# Altium schematic symbol library Library_KEI_Ruzicka.SchLib: 118 symbols (part 1 of 2)
Pins are listed as number, name and electrical type; pins without a type are passive.

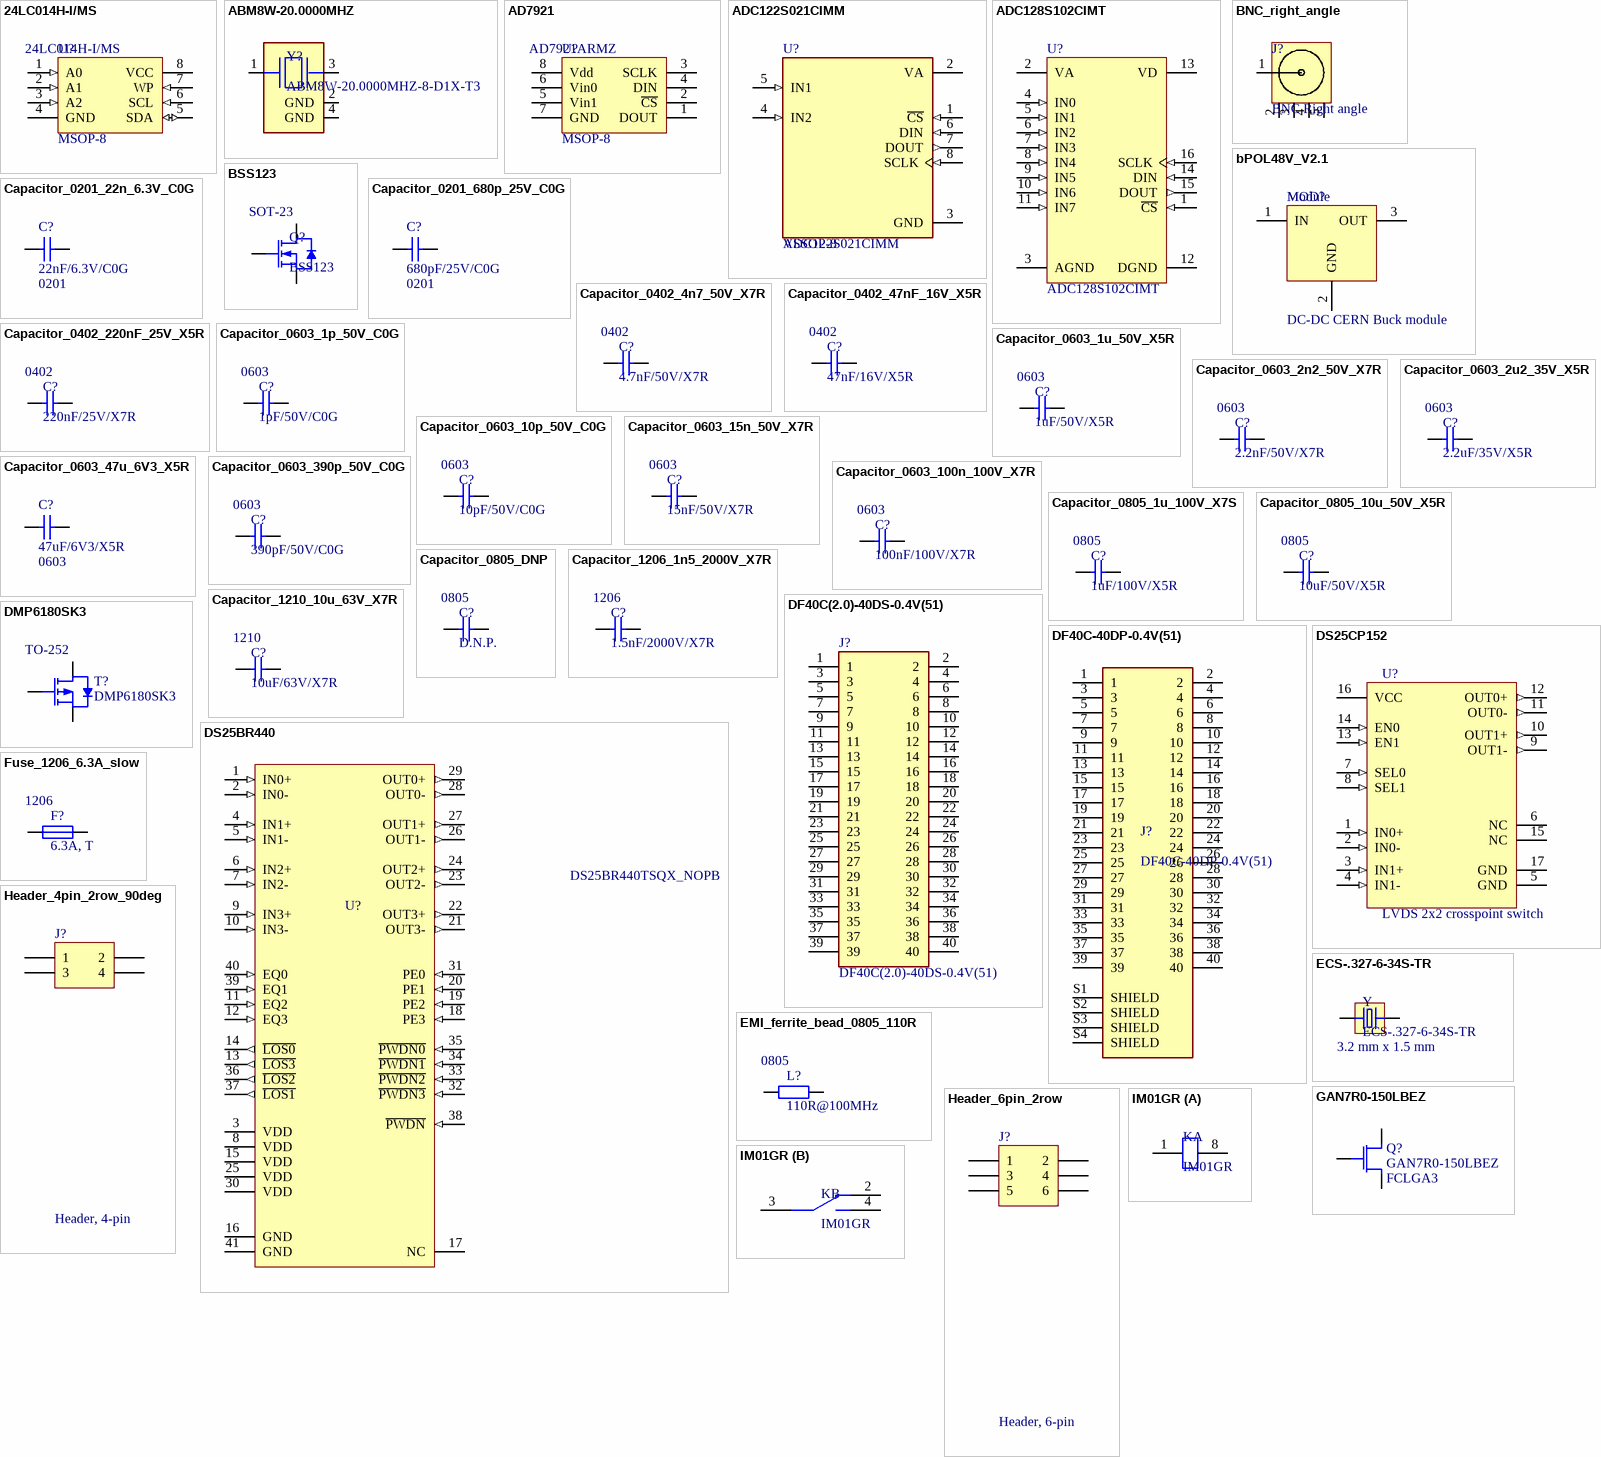
[diagram p0: symbols 24LC014H-I/MS to IM01GR]

## 24LC014H-I/MS
designator U?  Package: MSOP-8
I2C EEPROM 1K 128x8; Manufacturer: Microchip Technology; Link: https://cz.mouser.com/ProductDetail/Microchip-Technology/24LC014H-I-MS?qs=hH%252BOa0VZEiBOWodxna96qw%3D%3D; Distributor: Mouser; Part Number: 24LC014H-I/MS
footprint MSOP-8
pins: 1 A0 (in), 2 A1 (in), 3 A2 (in), 4 GND, 5 SDA (io), 6 SCL (in), 7 WP (in), 8 VCC

## ABM8W-20.0000MHZ
designator Y?, comment ABM8W-20.0000MHZ-8-D1X-T3
Crystal 20MHz ±10ppm (Tol) ±20ppm (Stability) 8pF 50Ohm; Manufacturer: ABRACON; Link: https://cz.mouser.com/ProductDetail/ABRACON/ABM8W-20.0000MHZ-8-D1X-T3?qs=5aG0NVq1C4wRm2evyp%252Ba5g%3D%3D; Distributor: Mouser; Part Number: ABM8W-20.0000MHZ-8-D1X-T3; Package: 4-pin SMD
footprint XTAL_ABM8W-20.0000MHZ-8-D1X-T3
pins: 1, 2 GND (power), 3 2, 4 GND (power)

## AD7921
designator U?, comment AD7921ARMZ  Package: MSOP-8
ADC 2 channel SPI 12 bit, 250kSps; Manufacturer: Analog Devices; Part Number: AD7921ARMZ-ND; Link: https://cz.mouser.com/ProductDetail/Analog-Devices/AD7921ARMZ?qs=%2FtpEQrCGXCyIZB8InYsRQw%3D%3D; Distributor: Mouser
footprint MSOP-8
pins: 1 DOUT, 2 ~{CS}, 3 SCLK, 4 DIN, 5 Vin1, 6 Vin0, 7 GND, 8 Vdd

## ADC122S021CIMM
designator U?  Package: VSSOP-8
A/D Converter 2 Channel, 50 ksps to 200 ksps 12-Bit; Manufacturer: Texas Instruments; Part Number: ADC122S021CIMMX/NOPB; Link: https://cz.mouser.com/ProductDetail/Texas-Instruments/ADC122S021CIMMX-NOPB?qs=7X5t%252BdzoRHB2bC7Teu8H3A%3D%3D; Distributor: Mouser
footprint VSSOP-8 (Plastic Small Outline 5,05mm x 3,10mm)
pins: 1 ~{CS} (in), 2 VA (power), 3 GND (power), 4 IN2 (in), 5 IN1 (in), 6 DIN (in), 7 DOUT (out), 8 SCLK (in)

## ADC128S102CIMT
designator U?
Analog to Digital Converte, 8 channel, 12 bit; Manufacturer: Texas Instruments; Part Number: 926-C128S102CIMTNOPB; Link: https://cz.mouser.com/ProductDetail/Texas-Instruments/ADC128S102CIMT-NOPB?qs=sGAEpiMZZMsFKQfwwdJx%2Fy%252BvtigOyWq%2Fghg6sc6nQrw%3D; Distributor: Mouser; Package: TSSOP-16
footprint SSOP-16_M (SOP, 16-Leads, Body 4.9x3.9mm, Pitch 0.635mm, IPC Low Density)
pins: 1 ~{CS} (in), 2 VA (power), 3 AGND (power), 4 IN0 (in), 5 IN1 (in), 6 IN2 (in), 7 IN3 (in), 8 IN4 (in), 9 IN5 (in), 10 IN6 (in), 11 IN7 (in), 12 DGND (power), 13 VD (power), 14 DIN (in), 15 DOUT (out), 16 SCLK (in)

## BNC_right_angle
designator J?, comment BNC Right angle
Link: -; Distributor: -; Manufacturer: -; Part Number: -
footprint BNC_right_angle_elevated
pins: 1, 2, 3, 4, 5

## bPOL48V_V2.1
designator MOD?, comment DC-DC CERN Buck module  Package: Module
Part Number: bPOL48V_V2.1; Link: https://espace.cern.ch/project-DCDC-new/Shared%20Documents/bPOL48V_V2.1_Datasheet.pdf; Distributor: CERN; Manufacturer: CERN
footprint bPOL48V_V2.1 (DC-DC CERN Buck)
pins: 1 IN (power), 2 GND, 3 OUT

## BSS123
designator Q?  Package: SOT-23
N-channel MOSFET, 100 V, 170 mA, 6 ohm; Manufacturer: onsemi; Link: https://cz.mouser.com/ProductDetail/onsemi-Fairchild/BSS123?qs=FOlmdCx%252BAA2Kf8SEB3qLYA%3D%3D; Distributor: Mouser; Part Number: BSS123
footprint SOT-23 (SOT23, 3-Leads, Body 2.92x1.3mm, Pitch 0.95mm)
pins: 1 G, 2 S, 3 D

## Capacitor_0201_22n_6.3V_C0G
designator C?, comment 22nF/6.3V/C0G  Package: 0201
MLCC capacitor, non-polarized; Manufacturer: Murata; Part Number: GRM033R60J223KE01D; Link: https://cz.mouser.com/ProductDetail/Murata-Electronics/GRM033R60J223KE01D?qs=%252BwCMEOx2S5ulxKUDUfgkDw%3D%3D; Distributor: Mouser
footprint sm_cap_0201
pins: 1, 2

## Capacitor_0201_680p_25V_C0G
designator C?, comment 680pF/25V/C0G  Package: 0201
MLCC capacitor, non-polarized; Manufacturer: Murata; Part Number: GRT0335C1E681JA02D; Link: https://cz.mouser.com/ProductDetail/Murata-Electronics/GRT0335C1E681JA02D?qs=d0WKAl%252BL4KbgBt1ILE9pSw%3D%3D; Distributor: Mouser
footprint sm_cap_0201
pins: 1, 2

## Capacitor_0402_4n7_50V_X7R
designator C?, comment 4.7nF/50V/X7R  Package: 0402
MLCC capacitor, non-polarized; Manufacturer: KYOCERA AVX; Part Number: KAM05AR71H472KH; Link: https://cz.mouser.com/ProductDetail/KYOCERA-AVX/KAM05AR71H472KH?qs=Jm2GQyTW%2Fbi%2FNi5zj8TR%252Bg%3D%3D; Distributor: Mouser
footprint sm_cap_0402
pins: 1, 2

## Capacitor_0402_47nF_16V_X5R
designator C?, comment 47nF/16V/X5R  Package: 0402
MLCC capacitor, non-polarized; Manufacturer: Murata; Part Number: GRM155R61C473JA01J; Link: https://cz.mouser.com/ProductDetail/Murata-Electronics/GRM155R61C473JA01J?qs=QzBtWTOodeXAsR6HlTl%252Bkg%3D%3D; Distributor: Mouser
footprint sm_cap_0402
pins: 1, 2

## Capacitor_0402_220nF_25V_X5R
designator C?, comment 220nF/25V/X7R  Package: 0402
MLCC capacitor, non-polarized; Manufacturer: TDK; Part Number: CGA2B3X7R1E224K050BE; Link: https://cz.mouser.com/ProductDetail/TDK/CGA2B3X7R1E224K050BE?qs=nQSIdc08i%252BchI4yuTG7auA%3D%3D; Distributor: Mouser
footprint sm_cap_0402
pins: 1, 2

## Capacitor_0603_1p_50V_C0G
designator C?, comment 1pF/50V/C0G  Package: 0603
MLCC capacitor, non-polarized; Manufacturer: KEMET; Part Number: C0603X109B5GACTU; Link: https://cz.mouser.com/ProductDetail/KEMET/C0603X109B5GACTU?qs=AQlKX63v8Rs4glLobqd%2FJw%3D%3D; Distributor: Mouser
footprint sm_cap_0603
pins: 1, 2

## Capacitor_0603_1u_50V_X5R
designator C?, comment 1uF/50V/X5R  Package: 0603
MLCC capacitor, non-polarized; Manufacturer: TDK; Part Number: CGA3E3X5R1H105M080AB; Link: https://cz.mouser.com/ProductDetail/TDK/CGA3E3X5R1H105M080AB?qs=sGAEpiMZZMvsSlwiRhF8qtKev7nvVKumBWRZ1nz7E2iGB77JPjf3fQ%3D%3D; Distributor: Mouser
footprint sm_cap_0603
pins: 1, 2

## Capacitor_0603_2n2_50V_X7R
designator C?, comment 2.2nF/50V/X7R  Package: 0603
MLCC capacitor, non-polarized; Manufacturer: Samsung Electro-Mechanics; Part Number: CL10B222KB8WPNC; Link: https://cz.mouser.com/ProductDetail/Samsung-Electro-Mechanics/CL10B222KB8WPNC?qs=7636FU3EItqqh5a8qV3Nhw%3D%3D; Distributor: Mouser
footprint sm_cap_0603
pins: 1, 2

## Capacitor_0603_2u2_35V_X5R
designator C?, comment 2.2uF/35V/X5R  Package: 0603
MLCC capacitor, non-polarized; Manufacturer: Murata; Part Number: GRM188R6YA225KA12D; Link: https://cz.mouser.com/ProductDetail/Murata-Electronics/GRM188R6YA225KA12D?qs=eeBpzGFlv%252B8CSp%2FeV2GiyQ%3D%3D; Distributor: Mouser
footprint sm_cap_0603
pins: 1, 2

## Capacitor_0603_10p_50V_C0G
designator C?, comment 10pF/50V/C0G  Package: 0603
MLCC capacitor, non-polarized; Manufacturer: AVX; Part Number: 06035A100JAT2A; Link: https://cz.mouser.com/ProductDetail/KYOCERA-AVX/06035A100JAT2A?qs=AGOxcRBkg6by8yQx3vvyTA%3D%3D; Distributor: Mouser
footprint sm_cap_0603
pins: 1, 2

## Capacitor_0603_15n_50V_X7R
designator C?, comment 15nF/50V/X7R  Package: 0603
MLCC capacitor, non-polarized; Manufacturer: Murata; Part Number: GCM188R71H153JA37J; Link: https://cz.mouser.com/ProductDetail/Murata-Electronics/GCM188R71H153JA37J?qs=sGAEpiMZZMvsSlwiRhF8qobMx1Rubn6OPLJeCeWfX7A%3D; Distributor: Mouser
footprint sm_cap_0603
pins: 1, 2

## Capacitor_0603_47u_6V3_X5R
designator C?, comment 47uF/6V3/X5R  Package: 0603
MLCC capacitor, non-polarized; Manufacturer: Murata Electronics; Part Number: ZRB18AR60J476ME01L; Link: https://cz.mouser.com/ProductDetail/Murata-Electronics/ZRB18AR60J476ME01L?qs=sGAEpiMZZMvsSlwiRhF8qnZmzmslKSd%2FAu2dWslIKC92PKGMZfCuNw%3D%3D; Distributor: Mouser
footprint sm_cap_0603
pins: 1, 2

## Capacitor_0603_100n_100V_X7R
designator C?, comment 100nF/100V/X7R  Package: 0603
MLCC capacitor, non-polarized; Manufacturer: KEMET; Part Number: C0603X104K1RACAUTO; Link: https://cz.mouser.com/ProductDetail/KEMET/C0603X104K1RACAUTO?qs=sGAEpiMZZMvsSlwiRhF8qrQG6leidpLjn6YuEhAYo4Wb52qvqRw8GA%3D%3D; Distributor: Mouser
footprint sm_cap_0603
pins: 1, 2

## Capacitor_0603_390p_50V_C0G
designator C?, comment 390pF/50V/C0G  Package: 0603
MLCC capacitor, non-polarized; Manufacturer: Murata Electronics; Part Number: GRM1885C1H391JA01J; Link: https://cz.mouser.com/ProductDetail/Murata-Electronics/GRM1885C1H391JA01J?qs=1Vk7sgAE1IxsLlp7b3%252BDpg%3D%3D; Distributor: Mouser
footprint sm_cap_0603
pins: 1, 2

## Capacitor_0805_1u_100V_X7S
designator C?, comment 1uF/100V/X5R  Package: 0805
MLCC capacitor, non-polarized; Manufacturer: TDK; Part Number: C2012X7S2A105K125AE; Link: https://cz.mouser.com/ProductDetail/TDK/C2012X7S2A105K125AE?qs=sGAEpiMZZMvsSlwiRhF8qglhG%252BcX4lmReuggWwOsjPA%3D; Distributor: Mouser
footprint sm_cap_0805
pins: 1, 2

## Capacitor_0805_10u_50V_X5R
designator C?, comment 10uF/50V/X5R  Package: 0805
MLCC capacitor, non-polarized; Manufacturer: Murata Electronics; Part Number: GRM21BR61H106KE43L; Link: https://cz.mouser.com/ProductDetail/Murata-Electronics/GRM21BR61H106KE43L?qs=sGAEpiMZZMvsSlwiRhF8qtsBU8Zhqm2RN1uvvh5DZMQnKsP%252BYKxcCA%3D%3D; Distributor: Mouser
footprint sm_cap_0805
pins: 1, 2

## Capacitor_0805_DNP
designator C?, comment D.N.P.  Package: 0805
MLCC capacitor, non-polarized; Link: -; Distributor: -; Manufacturer: -; Part Number: -
footprint sm_cap_0805
pins: 1, 2

## Capacitor_1206_1n5_2000V_X7R
designator C?, comment 1.5nF/2000V/X7R  Package: 1206
MLCC capacitor, non-polarized; Manufacturer: KEMET; Part Number: C1206C152KGRACTU; Link: https://cz.mouser.com/ProductDetail/KEMET/C1206C152KGRACTU?qs=7IaIRco65pkaVlY%252BAitWtw%3D%3D; Distributor: Mouser
footprint CAP_1206
pins: 1, 2

## Capacitor_1210_10u_63V_X7R
designator C?, comment 10uF/63V/X7R  Package: 1210
MLCC capacitor, non-polarized; Manufacturer: Murata Electronics; Part Number: GRM32ER71J106KA12L; Link: https://cz.mouser.com/ProductDetail/Murata-Electronics/GRM32ER71J106KA12L?qs=sGAEpiMZZMs7ZEmUmaUL0x5jo9FfpwHUWEhTkQ3JgZD2%2F9EKf40mBw%3D%3D; Distributor: Mouser
footprint SM_CAP_1210 (Footprint not found)
pins: 1, 2

## DF40C(2.0)-40DS-0.4V(51)
designator J?
40 Position Connector Receptacle, Center Strip Contacts Surface Mount Gold; Manufacturer: Hirose Connector; Link: https://cz.mouser.com/ProductDetail/Hirose-Connector/DF40C2.0-40DS-0.4V51?qs=tTj%252BmQ3KZwZ5XvyhQkwYtw%3D%3D; Distributor: Mouser; Part Number: DF40C(2.0)-40DS-0.4V(51); Package: DF40C(2.0)-40DS-0.4V(51)
footprint CONN_DF40C(2.0)-40DS-0.4V(51)
pins: 1, 2, 3, 4, 5, 6, 7, 8, 9, 10, 11, 12, 13, 14, 15, 16, 17, 18, 19, 20, 21, 22, 23, 24, 25, 26, 27, 28, 29, 30, 31, 32, 33, 34, 35, 36, 37, 38, 39, 40

## DF40C-40DP-0.4V(51)
designator J?
40 Position Connector Plug, Outer Shroud Contacts Surface Mount Gold; Manufacturer: Hirose Connector; Link: https://cz.mouser.com/ProductDetail/Hirose-Connector/DF40C-40DP-0.4V51?qs=eDUdFcBPps3ody6AX5VRNA%3D%3D; Distributor: Mouser; Part Number: DF40C-40DP-0.4V(51); Package: DF40C-40DP-0.4V(51)
footprint HRS_DF40C-40DP-0.4V(51)
pins: 1, 2, 3, 4, 5, 6, 7, 8, 9, 10, 11, 12, 13, 14, 15, 16, 17, 18, 19, 20, 21, 22, 23, 24, 25, 26, 27, 28, 29, 30, 31, 32, 33, 34, 35, 36, 37, 38, 39, 40, S1 SHIELD, S2 SHIELD, S3 SHIELD, S4 SHIELD

## DMP6180SK3
designator T?  Package: TO-252
P-channel mosfet, -60V, -14A, 110 mohm; Manufacturer: Diodes Incorporated; Part Number: DMP6180SK3-13; Link: https://cz.mouser.com/ProductDetail/Diodes-Incorporated/DMP6180SK3-13?qs=%252BSlWJf1dfkLvoylKqqyIWA%3D%3D; Distributor: Mouser
footprint TO-252_M (D-PAK, 4-Leads, Body 6.1x6.5mm, Pitch 2.28mm, Lead Span 9.7mm, IPC Low Density)
pins: 1 G, 2 S, 3 D

## DS25BR440
designator U?, comment DS25BR440TSQX_NOPB
LVDS Repeater 3.125 Gbps Quad Buffer with Transmit Pre-Emphasis and Receive / Equalization; Manufacturer: Texas Instruments; Part Number: DS25BR440TSQX/NOPB; Link: https://cz.mouser.com/ProductDetail/Texas-Instruments/DS25BR440TSQX-NOPB?qs=7X5t%252BdzoRHCM5Vgq5Nuqjg%3D%3D; Distributor: Mouser; Package: WQFN-40
footprint WQFN-40N (QFN50P600X600X80-41N)
pins: 1 IN0+ (in), 2 IN0- (in), 3 VDD (power), 4 IN1+ (in), 5 IN1- (in), 6 IN2+ (in), 7 IN2- (in), 8 VDD (power), 9 IN3+ (in), 10 IN3- (in), 11 EQ2 (in), 12 EQ3 (in), 13 ~{LOS3} (out), 14 ~{LOS0} (out), 15 VDD (power), 16 GND (power), 17 NC, 18 PE3 (in), 19 PE2 (in), 20 PE1 (in), 21 OUT3- (out), 22 OUT3+ (out), 23 OUT2- (out), 24 OUT2+ (out), 25 VDD (power), 26 OUT1- (out), 27 OUT1+ (out), 28 OUT0- (out), 29 OUT0+ (out), 30 VDD (power), 31 PE0 (in), 32 ~{PWDN3} (in), 33 ~{PWDN2} (in), 34 ~{PWDN1} (in), 35 ~{PWDN0} (in), 36 ~{LOS2} (out), 37 ~{LOS1} (out), 38 ~{PWDN} (in), 39 EQ1 (in), 40 EQ0 (in), 41 GND (power)

## DS25CP152
designator U?, comment LVDS 2x2 crosspoint switch
3.125-Gbps LVDS 2x2 crosspoint switch; Manufacturer: Texas Instruments; Part Number: DS25CP152TSQ/NOPB; Link: https://cz.mouser.com/ProductDetail/Texas-Instruments/DS25CP152TSQ-NOPB?qs=7X5t%252BdzoRHAhlY4kQ2ZvIQ%3D%3D; Distributor: Mouser; Package: WQFN-16
footprint WQFN-16 (QFN50P400X400X80-17N)
pins: 1 IN0+ (in), 2 IN0- (in), 3 IN1+ (in), 4 IN1- (in), 5 GND (power), 6 NC, 7 SEL0 (in), 8 SEL1 (in), 9 OUT1- (out), 10 OUT1+ (out), 11 OUT0- (out), 12 OUT0+ (out), 13 EN1 (in), 14 EN0 (in), 15 NC, 16 VCC (power), 17 GND (power)

## ECS-.327-6-34S-TR
designator Y  Package: 3.2 mm x 1.5 mm
32.768kHz ±20ppm Crystal 6pF 70 kOhms; Manufacturer: ECS; Link: https://cz.mouser.com/ProductDetail/ECS/ECS-327-6-34QS-TR?qs=%2FnKYMpMO73M8kCG5qF34Vw%3D%3D&utm_id=9873308831&gad_source=1&gclid=EAIaIQobChMI2afi9vT2hgMVcwsGAB0wVgxSEAAYAiAAEgIbtPD_BwE; Distributor: Mouser; Part Number: ECS-.327-6-34S-TR
footprint XTAL_ECS-.327-6-34S-TR
pins: 1 IN/OUT, 2 OUT/IN

## EMI_ferrite_bead_0805_110R
designator L?, comment 110R@100MHz  Package: 0805
EMI ferrite bead; Manufacturer: Murata Electronics; Part Number: BLM21SP111SN1D; Link: https://cz.mouser.com/ProductDetail/Murata-Electronics/BLM21SP111SN1D?qs=byeeYqUIh0MCjH4e%2FBBFzA%3D%3D; Distributor: Mouser
footprint sm_res_0805
pins: 1, 2

## Fuse_1206_6.3A_slow
designator F?, comment 6.3A, T  Package: 1206
SMD fuse; Manufacturer: Bourns; Part Number: SF-1206S630W-2; Link: https://cz.mouser.com/ProductDetail/Bourns/SF-1206S630W-2?qs=fAHHVMwC%252BbgLTBZaSQKpVQ%3D%3D; Distributor: Mouser
footprint FUSE_1206
pins: 1, 2

## GAN7R0-150LBEZ
designator Q?  Package: FCLGA3
MOSFET GAN7R0-150LBE/SOT8073/FCLGA; Manufacturer: Nexperia; Link: https://cz.mouser.com/ProductDetail/Nexperia/GAN7R0-150LBEZ?qs=3Rah4i%252BhyCG9ftWcAfuxkQ%3D%3D; Distributor: Mouser; Part Number: GAN7R0-150LBEZ
footprint GAN7R0150LBEZ
pins: 1 G, 2 S, 3 D

## Header_4pin_2row_90deg
designator J?, comment Header, 4-pin
Header, 4-pin, Right angle; Manufacturer: Amphenol; Part Number: 10129382-904002BLF; Link: https://cz.mouser.com/ProductDetail/Amphenol-FCI/10129382-904002BLF?qs=0lQeLiL1qyb38jq%2FoTNEAg%3D%3D; Distributor: Mouser; Package: Header, 4-pin
footprint HDR2X2_90deg (Connector; Header; 2x2 Position, 90 deg)
pins: 1, 2, 3, 4

## Header_6pin_2row
designator J?, comment Header, 6-pin
Manufacturer: Amphenol; Part Number: 67996-206HLF; Link: https://www.tme.eu/cz/details/67996-206hlf/konektory-hrebinky/amphenol-communications-solutions/; Distributor: TME; Package: Header, 6-pin
footprint HDR2X3 (Connector; Header; 3x2 Position)
pins: 1, 2, 3, 4, 5, 6

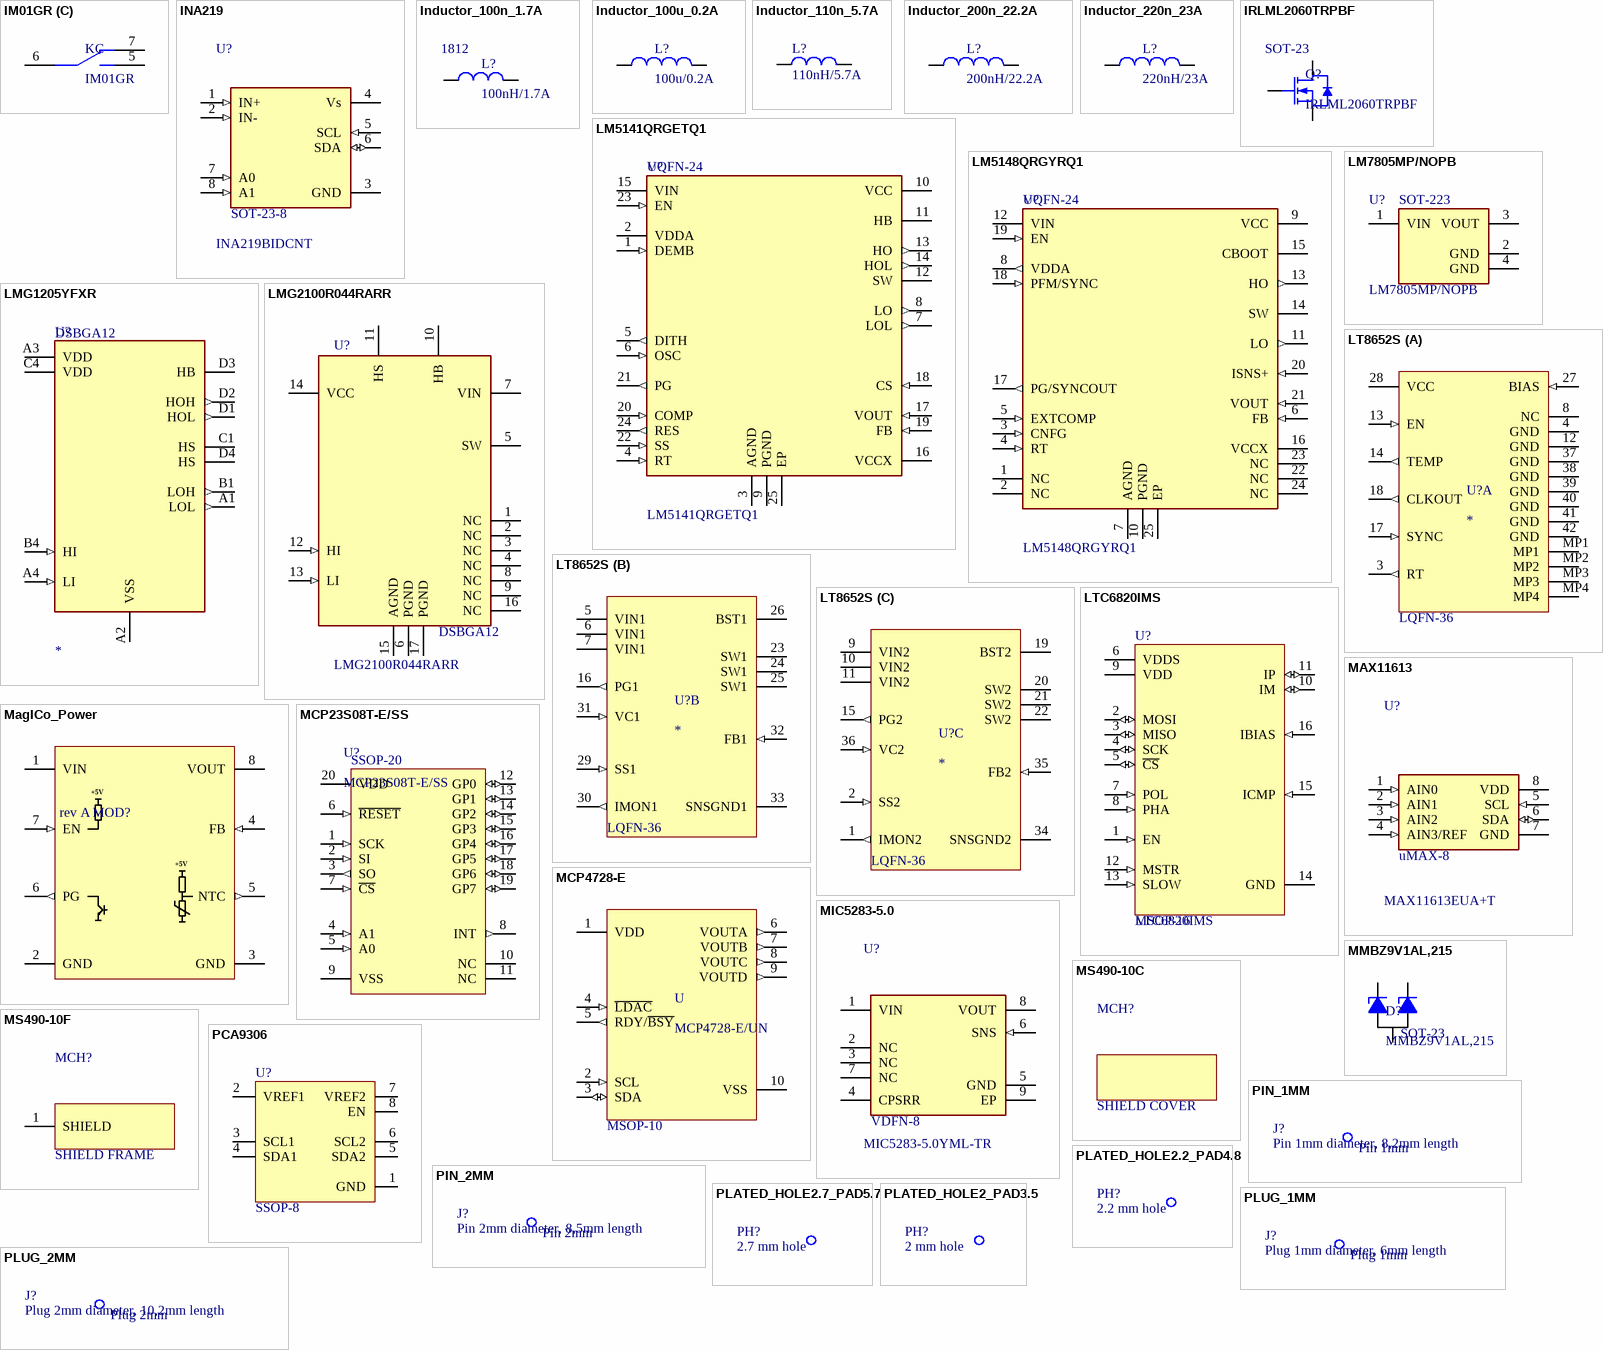
[diagram p1: symbols IM01GR to PLUG_2MM]

## IM01GR
designator K
Relay 3VDC 2A DPDT Signal Relay; Manufacturer: TE Connectivity; Link: https://cz.mouser.com/ProductDetail/TE-Connectivity-PB/IM01GR?qs=kJlCKCzaZTN1lvAfLPfsqA%3D%3D; Distributor: Mouser; Part Number: IM01GR; Package: IM01GR
footprint RELAY_1462037-1
part A pins: 1, 8
part B pins: 2, 3, 4
part C pins: 5, 6, 7

## INA219
designator U?, comment INA219BIDCNT  Package: SOT-23-8
Current/Power Monitor With I2C Interface, Zero-Drift, Bidirectional; Manufacturer: Texas Instruments; Link: https://cz.mouser.com/ProductDetail/Texas-Instruments/INA219BIDCNT?qs=1WmUhT%2FVMIMmEKxVjzYikA%3D%3D; Distributor: Mouser; Part Number: INA219BIDCNT
footprint SOT-23-8 (SOT65P280X145-8N)
pins: 1 IN+ (in), 2 IN- (in), 3 GND (power), 4 Vs (power), 5 SCL (in), 6 SDA (io), 7 A0 (in), 8 A1 (in)

## Inductor_100n_1.7A
designator L?, comment 100nH/1.7A  Package: 1812
Inductor; Manufacturer: Coilcraft; Part Number: 1812SMS-R10JLC; Link: https://cz.mouser.com/ProductDetail/Coilcraft/1812SMS-R10JLC?qs=zCSbvcPd3pbVN1hjNI%252BheA%3D%3D; Distributor: Mouser
footprint 1812SMS_Midi_Spring (Midi Spring Air Core Inductors)
pins: 1, 2

## Inductor_100u_0.2A
designator L?, comment 100u/0.2A
Inductor 100uH 200mA 10% 3.2x4.5mm SMD; Manufacturer: Murata Power Solutions; Part Number: 580-46104C; Link: https://cz.mouser.com/ProductDetail/EPCOS-TDK/B82432T1104K?qs=%2FkiEPUfD%2Fqmq0lz0mGMkmg%3D%3D&utm_id=9873308831&gad_source=1&gclid=EAIaIQobChMI08apwPjqhgMVtRAGAB0g2wXsEAAYAiAAEgKQovD_BwE; Distributor: Mouser; Package: 7.3 mm x 7.3 mm x 4.55 mm
footprint INDPM4532X340N (Footprint not found)
pins: 1, 2

## Inductor_110n_5.7A
designator L?, comment 110nH/5.7A
Inductor; Manufacturer: Coilcraft; Part Number: 2222SQ-111GEC; Link: https://cz.mouser.com/ProductDetail/Coilcraft/2222SQ-111GEC?qs=zCSbvcPd3pZ0eE6U0U80dQ%3D%3D; Distributor: Mouser; Package: 2222SQ-111
footprint 2222SQ-111 (Square Air Core Inductors)
pins: 1, 2

## Inductor_200n_22.2A
designator L?, comment 200nH/22.2A
Inductor 200nH 22.2A 10% 5.5x5.3mm SMD; Manufacturer: Bussmann / Eaton; Part Number: HCMA0503-R20-R; Link: https://cz.mouser.com/ProductDetail/Bussmann-Eaton/HCMA0503-R20-R?qs=iCT64eccu7h4SXkv2y5KYg%3D%3D; Distributor: Mouser; Package: 5.5 mm x 5.3 mm x 3 mm
footprint HCMA0503 (Automotive grade / High current power inductors)
pins: 1, 2

## Inductor_220n_23A
designator L?, comment 220nH/23A
Inductor 220nH 23A 10% 6.47x6.47mm SMD; Manufacturer: Vishay / Dale; Part Number: IHLP2525CZERR22M01; Link: https://cz.mouser.com/ProductDetail/Vishay-Dale/IHLP2525CZERR22M01?qs=OjIXCZeWnygH8nA97%252B9bsQ%3D%3D; Distributor: Mouser; Package: 6.47 mm x 6.47 mm x 3 mm
footprint IHLP-2525CZ-01 (IHLP® Commercial Inductors, High Saturation Series)
pins: 1, 2

## IRLML2060TRPBF
designator Q?  Package: SOT-23
N-channel MOSFET, 60 V, 1,2 A, 480 mohm; Manufacturer: Infineon Technologies; Link: https://cz.mouser.com/ProductDetail/Infineon-Technologies/IRLML2060TRPBF?qs=9%252BKlkBgLFf1IzIjJ4taDPQ%3D%3D; Distributor: Mouser; Part Number: IRLML2060TRPBF
footprint SOT-23 (SOT23, 3-Leads, Body 2.92x1.3mm, Pitch 0.95mm)
pins: 1 G, 2 S, 3 D

## LM5141QRGETQ1
designator U?  Package: VQFN-24
Synchronous Buck Controller Wide Input 2.2MHz low Iq; Manufacturer: Texas Instruments; Link: https://cz.mouser.com/ProductDetail/Texas-Instruments/LM5141QRGETQ1?qs=LuYMPh7GGMRCEBYxuoWMuQ%3D%3D&_gl=1*xs43b3*_ga*dW5kZWZpbmVk*_ga_15W4STQT4T*dW5kZWZpbmVk*_ga_1KQLCYKRX3*dW5kZWZpbmVk; Distributor: Mouser; Part Number: LM5141QRGETQ1
footprint QFN24_4MM_X_4MM-D
pins: 1 DEMB (in), 2 VDDA (power), 3 AGND (power), 4 RT (in), 5 DITH (out), 6 OSC (in), 7 LOL (out), 8 LO (out), 9 PGND (power), 10 VCC (power), 11 HB (power), 12 SW, 13 HO (out), 14 HOL (out), 15 VIN (power), 16 VCCX (power), 17 VOUT (in), 18 CS (in), 19 FB (in), 20 COMP (in), 21 PG (out), 22 SS (in), 23 EN (in), 24 RES (out), 25 EP (power)

## LM5148QRGYRQ1
designator U?  Package: VQFN-24
Switching Controllers Automotive, 80-V synchronous buck DC/DC controller with ultra-low IQ; Manufacturer: Texas Instruments; Link: https://cz.mouser.com/ProductDetail/Texas-Instruments/LM5148QRGYRQ1?qs=Jm2GQyTW%2FbhUnPSFFUfrEg%3D%3D; Distributor: Mouser; Part Number: LM5148QRGYRQ1
footprint QFN24_4MM_X_4MM-D
pins: 1 NC, 2 NC, 3 CNFG (in), 4 RT (in), 5 EXTCOMP (in), 6 FB (in), 7 AGND (power), 8 VDDA (out), 9 VCC (power), 10 PGND (power), 11 LO (out), 12 VIN (power), 13 HO (out), 14 SW, 15 CBOOT (power), 16 VCCX (power), 17 PG/SYNCOUT  (out), 18 PFM/SYNC (in), 19 EN (in), 20 ISNS+ (in), 21 VOUT (in), 22 NC, 23 NC, 24 NC, 25 EP (power)

## LM7805MP/NOPB
designator U?  Package: SOT-223
1.5-A, 30-V, linear voltage regulator; Manufacturer: Texas Instruments; Link: https://cz.mouser.com/ProductDetail/Texas-Instruments/LM7805MP-NOPB?qs=gO6GG99qvRBdJUhXh1Qrhw%3D%3D; Distributor: Mouser; Part Number: LM7805MP/NOPB
footprint SOT-223_N (SOT223, 4-Leads, Body 6.5x3.5mm, Pitch 2.3mm, Lead Span 7mm, IPC Medium Density)
pins: 1 VIN (power), 2 GND (power), 3 VOUT (power), 4 GND (power)

## LMG1205YFXR
designator U?  Package: DSBGA12
1.2-A, 5-A 100-V, half bridge gate driver with 5-V UVLO for GaNFET and MOSFET; Manufacturer: Texas Instruments; Part Number: LMG1205YFXT; Link: https://cz.mouser.com/ProductDetail/Texas-Instruments/LMG1205YFXT?qs=u4fy%2FsgLU9P6VpA6YfrewQ%3D%3D; Distributor: Mouser
footprint BGA12_4MM_X_4MM
pins: A1 LOL (out), A2 VSS (power), A3 VDD (power), A4 LI (in), B1 LOH (out), B4 HI (in), C1 HS (power), C4 VDD (power), D1 HOL (out), D2 HOH (out), D3 HB (power), D4 HS (power)

## LMG2100R044RARR
designator U?  Package: DSBGA12
Gate Drivers 100-V 4.4-mΩ half-bridge GaN FET with integrated driver and protection; Manufacturer: Texas Instruments; Link: https://cz.mouser.com/ProductDetail/Texas-Instruments/LMG2100R044RARR?qs=ZcfC38r4PovtUeqDI2WsKQ%3D%3D; Distributor: Mouser; Part Number: LMG2100R044RARR
footprint RAR0016B-MFG
pins: 1 NC, 2 NC, 3 NC, 4 NC, 5 SW (power), 6 PGND (power), 7 VIN (power), 8 NC, 9 NC, 10 HB (power), 11 HS (power), 12 HI (in), 13 LI (in), 14 VCC (power), 15 AGND (power), 16 NC, 17 PGND (power)

## LT8652S
designator U?  Package: LQFN-36
Dual Channel 8.5A, 18V, Synchronous Step-Down Silent Switcher with 16µA Quiescent Current; Manufacturer: Analog Devices; Part Number: LT8652SIV#PBF; Link: https://cz.mouser.com/ProductDetail/Analog-Devices/LT8652SIVPBF?qs=wnTfsH77Xs7%252BwG2VxQ5HoA%3D%3D; Distributor: Mouser
footprint LQFN-36 (LT8652SIVPBF)
part A pins: 3 RT (out), 4 GND (power), 8 NC, 12 GND (power), 13 EN (in), 14 TEMP (out), 17 SYNC (in), 18 CLKOUT (out), 27 BIAS (in), 28 VCC (power), 37 GND (power), 38 GND (power), 39 GND (power), 40 GND (power), 41 GND (power), 42 GND (power), MP1, MP2, MP3, MP4
part B pins: 5 VIN1 (power), 6 VIN1 (power), 7 VIN1 (power), 16 PG1 (out), 23 SW1 (power), 24 SW1 (power), 25 SW1 (power), 26 BST1, 29 SS1 (in), 30 IMON1 (out), 31 VC1 (in), 32 FB1 (in), 33 SNSGND1 (power)
part C pins: 1 IMON2 (out), 2 SS2 (in), 9 VIN2 (power), 10 VIN2 (power), 11 VIN2 (power), 15 PG2 (out), 19 BST2 (power), 20 SW2 (power), 21 SW2 (power), 22 SW2 (power), 34 SNSGND2 (power), 35 FB2 (in), 36 VC2 (in)

## LTC6820IMS
designator U?  Package: MSOP-16
isoSPI Isolated Communications Interface; Manufacturer: Analog Devices; Part Number: LTC6820IMS#PBF; Link: https://cz.mouser.com/ProductDetail/Analog-Devices/LTC6820IMSPBF?qs=hVkxg5c3xu9mQWZApkXW1Q%3D%3D; Distributor: Mouser
footprint MSOP-16N (16-Lead Plastic MSOP)
pins: 1 EN (in), 2 MOSI (io), 3 MISO (io), 4 SCK (io), 5 ~{CS} (io), 6 VDDS (power), 7 POL (in), 8 PHA (in), 9 VDD (power), 10 IM (io), 11 IP (io), 12 MSTR (in), 13 SLOW (in), 14 GND (power), 15 ICMP (in), 16 IBIAS (in)

## MagICo_Power
designator MOD?, comment rev A
Magnetic Interference Compatible Buck Power Converter; Link: -; Distributor: -; Manufacturer: -; Part Number: -; Package: MOD
footprint MagICo_Power (Footprint not found)
pins: 1 VIN (power), 2 GND (power), 3 GND (power), 4 FB (in), 5 NTC (out), 6 PG (out), 7 EN (in), 8 VOUT
text: +5V

## MAX11613
designator U?, comment MAX11613EUA+T  Package: uMAX-8
12 Bit Analog to Digital Converter 2, 4 Input 1 SAR 8-uMAX; Manufacturer: Analog Devices / Maxim Integrated; Link: https://cz.mouser.com/ProductDetail/Analog-Devices-Maxim-Integrated/MAX11613EUA%2bT?qs=d3kjJb5aE2Yh9e8LMjtS%252Bw%3D%3D; Distributor: Mouser; Part Number: MAX11613EUA+T
footprint uMAX-8 (SOP65P490X110-8N)
pins: 1 AIN0 (in), 2 AIN1 (in), 3 AIN2 (in), 4 AIN3/REF (in), 5 SCL (in), 6 SDA (io), 7 GND (power), 8 VDD (power)

## MCP23S08T-E/SS
designator U?  Package: SSOP-20
8-Bit I/O Expander with Serial Interface; Manufacturer: Microchip; Link: https://cz.mouser.com/ProductDetail/Microchip-Technology/MCP23S08T-E-SS?qs=InakTnyiSK%252BxutFipKaKzg%3D%3D; Distributor: Mouser; Part Number: MCP23S08T-E/SS
footprint SSOP-20
pins: 1 SCK (in), 2 SI (in), 3 SO (out), 4 A1 (in), 5 A0 (in), 6 ~{RESET} (in), 7 ~{CS} (in), 8 INT (out), 9 VSS (power), 10 NC, 11 NC, 12 GP0 (io), 13 GP1 (io), 14 GP2 (io), 15 GP3 (io), 16 GP4 (io), 17 GP5 (io), 18 GP6 (io), 19 GP7 (io), 20 VDD (power)

## MCP4728-E
designator U, comment MCP4728-E/UN  Package: MSOP-10
DAC 12 Bit 4 Outputs 10-MSOP; Manufacturer: Microchip; Link: https://cz.mouser.com/ProductDetail/Microchip-Technology/MCP4728-E-UN?qs=E6wAi2XWqcP2zTenScklGA%3D%3D; Distributor: Mouser; Part Number: MCP4728-E/UN
footprint MSOP-10 (SOP50P490X110-10N)
pins: 1 VDD (power), 2 SCL (in), 3 SDA (io), 4 ~{LDAC} (in), 5 RDY/~{BSY} (out), 6 VOUTA (out), 7 VOUTB (out), 8 VOUTC (out), 9 VOUTD (out), 10 VSS (power)

## MIC5283-5.0
designator U?, comment MIC5283-5.0YML-TR  Package: VDFN-8
120V/150mA IN 5V OUT Ultra-Low IQ High-PSRR Linear Regulator; Manufacturer: Microchip Technology; Link: https://cz.mouser.com/ProductDetail/Microchip-Technology/MIC5283-5.0YML-TR?qs=Y3Q3JoKAO1QWhgN4NE2IkA%3D%3D; Distributor: Mouser; Part Number: MIC5283-5.0YML-TR
footprint VDFN-8 (SON65P300X300X100-9N-D)
pins: 1 VIN (power), 2 NC, 3 NC, 4 CPSRR, 5 GND (power), 6 SNS (in), 7 NC, 8 VOUT (power), 9 EP

## MMBZ9V1AL,215
designator D?  Package: SOT-23
TVS unidir - 6V, 1,7A; Manufacturer: Nexperia; Link: https://cz.mouser.com/ProductDetail/Nexperia/MMBZ9V1AL215?qs=MWRe%252BjyhxRvv06%252BacS3Dsg%3D%3D; Distributor: Mouser; Part Number: MMBZ9V1AL,215
footprint SOT-23
pins: 1 K1, 2 K2, 3 A

## MS490-10C
designator MCH?, comment Package: SHIELD COVER  (hidden comment: 49,6x35,6x3,5mm)
2-Piece EMI Shield Cover, 49,6x35,6x3,5mm; Manufacturer: Masach; Part Number: MS490-10C; Link: https://cz.mouser.com/ProductDetail/Masach/MS490-10C?qs=wT7LY0lnAe3NhZySkUkj0Q%3D%3D; Distributor: Mouser; ComponentLink2Description: Family
footprint MS490-10C (Footprint not found)

## MS490-10F
designator MCH?, comment Package: SHIELD FRAME  (hidden comment: 49x35x7,5mm)
2-Piece EMI Shield Frame, 49x3573,5mm; Manufacturer: Masach; Part Number: MS490-10F; Link: https://cz.mouser.com/ProductDetail/Masach/MS490-10F?qs=wT7LY0lnAe0FBrMkjysuhQ%3D%3D; Distributor: Mouser; ComponentLink2Description: Family
footprint MS490-10F
footprint MS490-10F_ShortFP
footprint MS490-10F_ShortFP_DNP
pins: 1 SHIELD

## PCA9306
designator U?, comment Package: SSOP-8  (hidden comment: PCA9306DCTR)
Level Translator for I2C; Manufacturer: Texas Instruments; Link: https://cz.mouser.com/ProductDetail/Texas-Instruments/PCA9306DCTR?qs=wgAEGBTxy7mysSrdibj0NQ%3D%3D; Distributor: Mouser; ComponentLink2Description: Family; Part Number: PCA9306DCTR
simulation model nosim
footprint SSOP-8 (SOP65P400X130-8N)
pins: 1 GND (power), 2 VREF1 (power), 3 SCL1, 4 SDA1, 5 SDA2, 6 SCL2, 7 VREF2 (power), 8 EN

## PIN_1MM
designator J?, comment Pin 1mm diameter, 8,2mm length  Package: Pin 1mm
Manufacturer: Keystone; Part Number: 1405-1; Link: https://cz.mouser.com/ProductDetail/Keystone-Electronics/1405-1?qs=%252BS1bAMbChF%2Fu3zuNb7tADA%3D%3D; Distributor: Mouser
footprint PIN_1405-1
pins: 1 (io)

## PIN_2MM
designator J?, comment Pin 2mm diameter, 8,5mm length  Package: Pin 2mm
Manufacturer: Keystone; Part Number: 1447-1; Link: https://cz.mouser.com/ProductDetail/Keystone-Electronics/1447-1?qs=aNr0Yui8wHZMxyO489qvCw%3D%3D; Distributor: Mouser
footprint PIN_1447-1
pins: 1 (io)

## PLATED_HOLE2.2_PAD4.8
designator PH?, comment 2.2 mm hole
footprint c480h220 (Footprint not found)
pins: 1 (io)

## PLATED_HOLE2.7_PAD5.7
designator PH?, comment 2.7 mm hole
footprint c570h270 (Footprint not found)
pins: 1 (io)

## PLATED_HOLE2_PAD3.5
designator PH?, comment 2 mm hole
footprint c350h200
pins: 1 (io)

## PLUG_1MM
designator J?, comment Plug 1mm diameter, 6mm length  Package: Plug 1mm
Plug 0.81-1.17mm diameter, 6mm length; Manufacturer: Keystone; Part Number: 1414; Link: https://cz.mouser.com/ProductDetail/Keystone-Electronics/1414?qs=fKJLI%2FsxXOeNVkyjQTcJeg%3D%3D; Distributor: Mouser
footprint PLUG_1414 (Footprint not found)
pins: 1 (io)

## PLUG_2MM
designator J?, comment Plug 2mm diameter, 10,2mm length  Package: Plug 2mm
Plug 1.65-2.08mm diameter, 10,2mm length; Manufacturer: Keystone; Part Number: 1641A; Link: https://cz.mouser.com/ProductDetail/Keystone-Electronics/1641A?qs=fKJLI%2FsxXOfS3f7kDglS4g%3D%3D; Distributor: Mouser
footprint PLUG_1641A (Footprint not found)
pins: 1 (io)

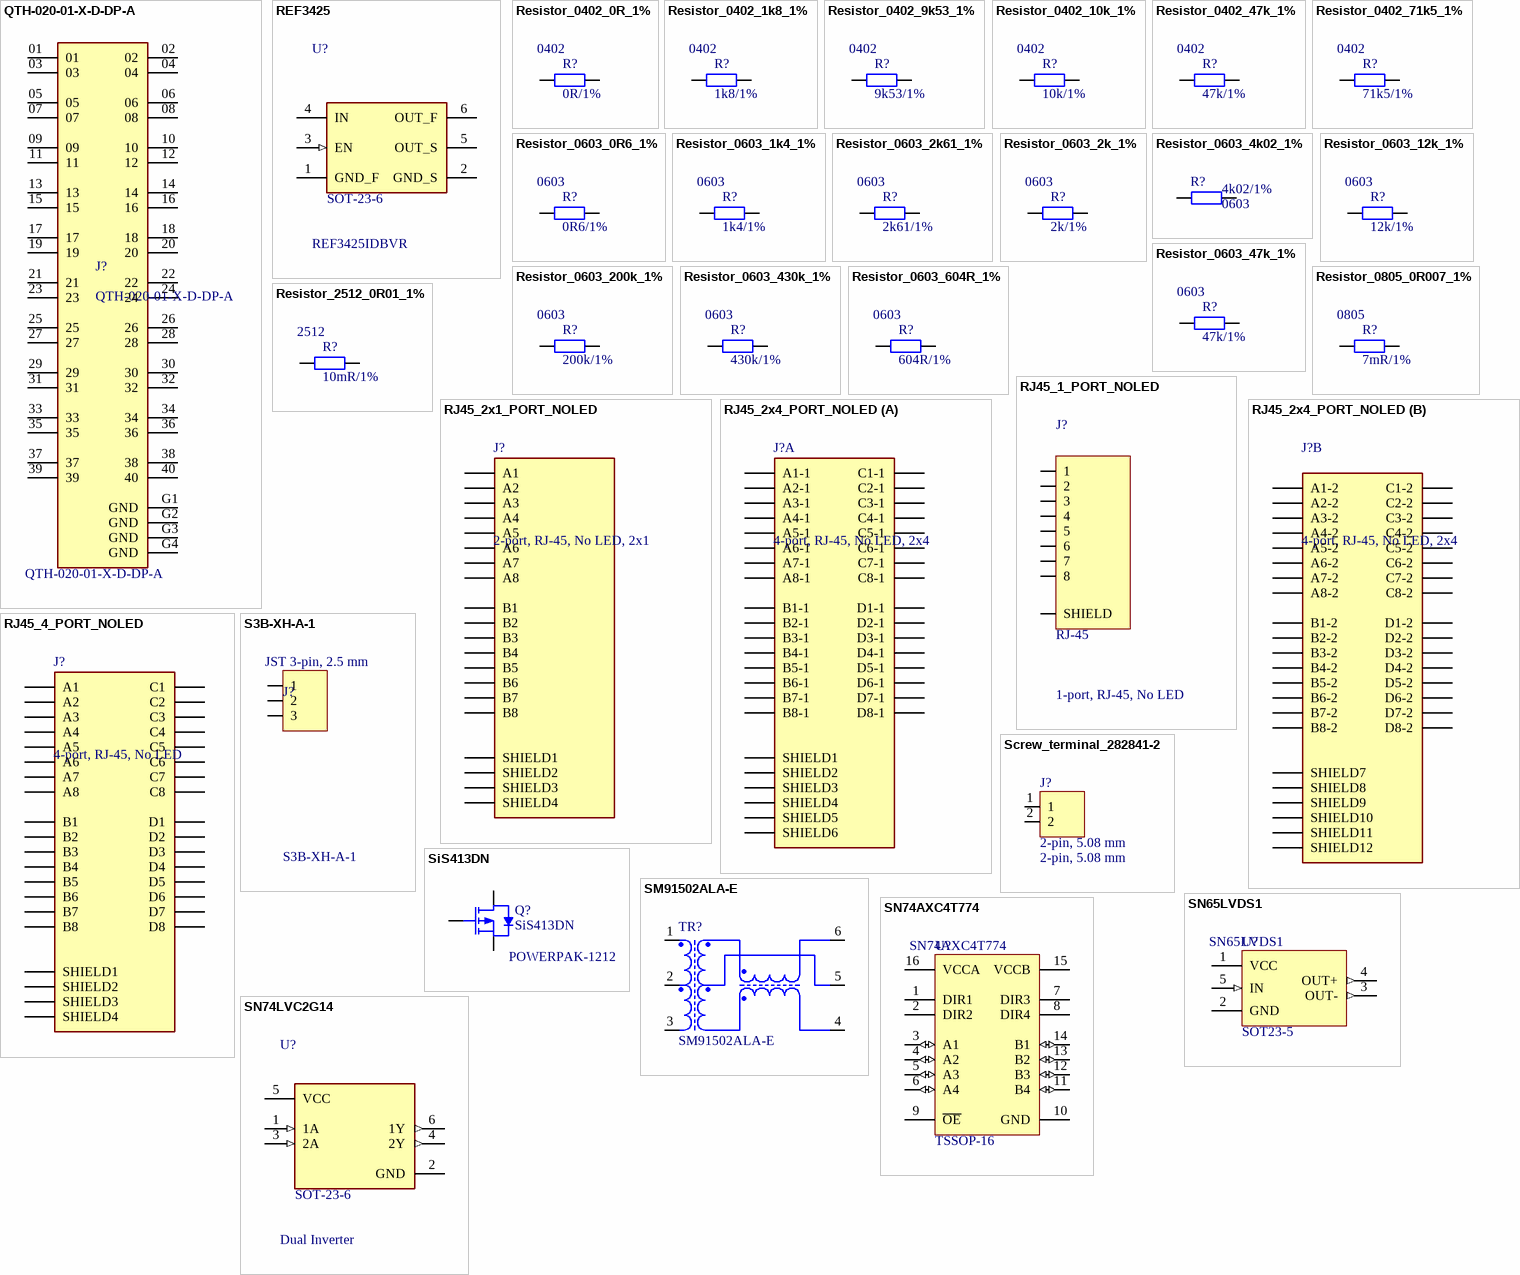
[diagram p2: symbols QTH-020-01-X-D-DP-A to SN74LVC2G14]

## QTH-020-01-X-D-DP-A
designator J?
40 Position Connector Differential Pair Array, Male Surface Mount Gold; Manufacturer: Samtec; Link: https://cz.mouser.com/ProductDetail/Samtec/QTH-020-01-L-D-DP-A-K?qs=rU5fayqh%252BE2Iq8jlOR3VmA%3D%3D&utm_id=9873308831&gad_source=1&gclid=Cj0KCQjwgJyyBhCGARIsAK8LVLMTjoZ1DpkJ3wvTBuztbaVohi9AbAHSv8Ij6udMOlzjuzhNPBYvj14aAv0VEALw_wcB; Distributor: Mouser; Part Number: QTH-020-01-X-D-DP-A; Package: QTH-020-01-X-D-DP-A
footprint SAMTEC_QTH-020-01-X-D-DP-A
pins: 01, 02, 03, 04, 05, 06, 07, 08, 09, 10, 11, 12, 13, 14, 15, 16, 17, 18, 19, 20, 21, 22, 23, 24, 25, 26, 27, 28, 29, 30, 31, 32, 33, 34, 35, 36, 37, 38, 39, 40, G1 GND (power), G2 GND (power), G3 GND (power), G4 GND (power)

## REF3425
designator U?, comment REF3425IDBVR  Package: SOT-23-6
2.5V Reference, Low-Drift, Low-Power; Manufacturer: Texas Instruments; Link: https://cz.mouser.com/ProductDetail/Texas-Instruments/REF3425IDBVR?qs=YCa%2FAAYMW01YJo5s3bO8wA%3D%3D; Distributor: Mouser; Part Number: REF3425IDBVR
footprint SOT-23-6 (Footprint not found)
pins: 1 GND_F (power), 2 GND_S (power), 3 EN (in), 4 IN (power), 5 OUT_S (power), 6 OUT_F (power)

## Resistor_0402_0R_1%
designator R?, comment 0R/1%  Package: 0402
Chip resistor; Manufacturer: Yageo; Part Number: RC0402JR-070RL; Link: http://cz.mouser.com/ProductDetail/Yageo/RC0402JR-070RL/?qs=sGAEpiMZZMvdGkrng054t%2fsmc%252bja%252bkkSjmxpigmrnko%3d; Distributor: Mouser
footprint sm_res_0402
pins: 1, 2

## Resistor_0402_1k8_1%
designator R?, comment 1k8/1%  Package: 0402
Chip resistor; Manufacturer: Panasonic; Part Number: ERJ-2RKF1801X; Link: https://cz.mouser.com/ProductDetail/Panasonic/ERJ-2RKF1801X?qs=sGAEpiMZZMtlubZbdhIBIH%2FX%2FXYrlp18W2LtVgyPhS8%3D; Distributor: Mouser
footprint sm_res_0402
pins: 1, 2

## Resistor_0402_9k53_1%
designator R?, comment 9k53/1%  Package: 0402
Chip resistor; Manufacturer: Panasonic; Part Number: ERA-2AEB9531X; Link: https://cz.mouser.com/ProductDetail/Panasonic/ERA-2AEB9531X?qs=sGAEpiMZZMtlubZbdhIBIMAidfQNnlNVYoujtVO7Y98%3D; Distributor: Mouser
footprint sm_res_0402
pins: 1, 2

## Resistor_0402_10k_1%
designator R?, comment 10k/1%  Package: 0402
Chip resistor; Manufacturer: Panasonic; Part Number: ERA-2AEB103X; Link: https://cz.mouser.com/ProductDetail/Panasonic/ERA-2AEB103X?qs=YFwoyZoVY0hgF6xkIZRJQA%3D%3D; Distributor: Mouser
footprint sm_res_0402
pins: 1, 2

## Resistor_0402_47k_1%
designator R?, comment 47k/1%  Package: 0402
Chip resistor; Manufacturer: Panasonic; Part Number: ERA-2AEB473X; Link: https://cz.mouser.com/ProductDetail/Panasonic/ERA-2AEB473X?qs=YFwoyZoVY0gwL6xR6V1UVA%3D%3D; Distributor: Mouser
footprint sm_res_0402
pins: 1, 2

## Resistor_0402_71k5_1%
designator R?, comment 71k5/1%  Package: 0402
Chip resistor; Manufacturer: Bourns; Part Number: CR0402-FX-7152GLF; Link: https://cz.mouser.com/ProductDetail/Bourns/CR0402-FX-7152GLF?qs=sGAEpiMZZMtlubZbdhIBIDfFWzqdPB9%252BiAQ9EDhmSwE%3D; Distributor: Mouser
footprint sm_res_0402
pins: 1, 2

## Resistor_0603_0R6_1%
designator R?, comment 0R6/1%  Package: 0603
Chip resistor; Manufacturer: Yageo; Part Number: RL0603FR-070R6L; Link: https://cz.mouser.com/ProductDetail/YAGEO/RL0603FR-070R6L?qs=k2KEx2DUIRTfFy8xpdt3Ug%3D%3D; Distributor: Mouser
footprint sm_res_0603
pins: 1, 2

## Resistor_0603_1k4_1%
designator R?, comment 1k4/1%  Package: 0603
Chip resistor; Manufacturer: Bourns; Part Number: CR0603-FX-1401ELF; Link: https://cz.mouser.com/ProductDetail/Bourns/CR0603-FX-1401ELF?qs=sGAEpiMZZMtlubZbdhIBIJoX7P5Bll7a9UxwjbE81KM%3D; Distributor: Mouser
footprint sm_res_0603
pins: 1, 2

## Resistor_0603_2k61_1%
designator R?, comment 2k61/1%  Package: 0603
Chip resistor; Manufacturer: Bourns; Part Number: CR0603-FX-2611ELF; Link: https://cz.mouser.com/ProductDetail/Bourns/CR0603-FX-2611ELF?qs=sGAEpiMZZMvdGkrng054t%252bRNGJdg958RGGXZkbP38N0%3d; Distributor: Mouser
footprint sm_res_0603
pins: 1, 2

## Resistor_0603_2k_1%
designator R?, comment 2k/1%  Package: 0603
Chip resistor; Manufacturer: Panasonic; Part Number: ERJ-PA3F2001V; Link: https://cz.mouser.com/ProductDetail/Panasonic/ERJ-PA3F2001V?qs=sGAEpiMZZMtlubZbdhIBIL24R7XL4VFWUbrVHGfRWZU%3D; Distributor: Mouser
footprint sm_res_0603
pins: 1, 2

## Resistor_0603_4k02_1%
designator R?, comment 4k02/1%  Package: 0603
Chip resistor; Manufacturer: Bourns; Part Number: CR0603-FX-4021ELF; Link: https://cz.mouser.com/ProductDetail/Bourns/CR0603-FX-4021ELF?qs=sGAEpiMZZMvdGkrng054t%252BRNGJdg958RmgKdyYL28EM%3D; Distributor: Mouser
footprint sm_res_0603
pins: 1, 2

## Resistor_0603_12k_1%
designator R?, comment 12k/1%  Package: 0603
Chip resistor; Manufacturer: YAGEO; Part Number: RC0603FR-7W12KL; Link: https://cz.mouser.com/ProductDetail/YAGEO/RC0603FR-7W12KL?qs=sGAEpiMZZMtlubZbdhIBIEgN9MQql2m6qCfCDNuara0%3D; Distributor: Mouser
footprint sm_res_0603
pins: 1, 2

## Resistor_0603_47k_1%
designator R?, comment 47k/1%  Package: 0603
Chip resistor; Manufacturer: Vishay / Dale; Part Number: CRCW060347K0FKED; Link: https://cz.mouser.com/ProductDetail/Vishay-Dale/CRCW060347K0FKED?qs=sGAEpiMZZMtlubZbdhIBIIPWN1VQSu3wHYeiRJEfJv0%3D; Distributor: Mouser
footprint sm_res_0603
pins: 1, 2

## Resistor_0603_200k_1%
designator R?, comment 200k/1%  Package: 0603
Chip resistor; Manufacturer: Panasonic; Part Number: ERJ-UP3F2003V; Link: https://cz.mouser.com/ProductDetail/Panasonic/ERJ-UP3F2003V?qs=sGAEpiMZZMvdGkrng054twKDKoBh%252Bscn3Ky3Ytanqufmnmnl3R9tJA%3D%3D; Distributor: Mouser
footprint sm_res_0603
pins: 1, 2

## Resistor_0603_430k_1%
designator R?, comment 430k/1%  Package: 0603
Chip resistor; Manufacturer: Bourns; Part Number: CR0603-FX-4303ELF; Link: https://cz.mouser.com/ProductDetail/Bourns/CR0603-FX-4303ELF?qs=sGAEpiMZZMvdGkrng054t%2Fh5BnJxeWSznK%252BG6Dwdx9c%3D; Distributor: Mouser
footprint sm_res_0603
pins: 1, 2

## Resistor_0603_604R_1%
designator R?, comment 604R/1%  Package: 0603
Chip resistor; Manufacturer: Bourns; Part Number: CR0603-FX-6040ELF; Link: https://cz.mouser.com/ProductDetail/Bourns/CR0603-FX-6040ELF?qs=sGAEpiMZZMtlubZbdhIBIMinHFTiNSf6jrx9uddDjW4%3D; Distributor: Mouser
footprint sm_res_0603
pins: 1, 2

## Resistor_0805_0R007_1%
designator R?, comment 7mR/1%  Package: 0805
Chip resistor; Manufacturer: KOA Speer; Part Number: TLR2ATTD7L00F; Link: https://cz.mouser.com/ProductDetail/KOA-Speer/TLR2ATTD7L00F?qs=4hXxRbBfDXYvcuweoAPc%2FQ%3D%3D; Distributor: Mouser
footprint SM_RES_0805
pins: 1, 2

## Resistor_2512_0R01_1%
designator R?, comment 10mR/1%  Package: 2512
Chip resistor; Manufacturer: Wurth Elektronik; Part Number: 580070763010; Link: https://cz.mouser.com/ProductDetail/Wurth-Elektronik/580070763010?qs=amGC7iS6iy%2FEZvIQbPzDXw%3D%3D; Distributor: Mouser
footprint SM_RES_2512
pins: 1, 2

## RJ45_1_PORT_NOLED
designator J?, comment 1-port, RJ-45, No LED  Package: RJ-45
Manufacturer: Amphenol; Part Number: RJSBE5380C1; Link: https://cz.mouser.com/ProductDetail/Amphenol-Commercial-Products/RJSBE5380C1?qs=LiXFYW4OVo%2FdVDofBGy8HQ%3D%3D; Distributor: Mouser
footprint RJ45_1_PORT_NOLED (Footprint not found)
pins: 1, 2, 3, 4, 5, 6, 7, 8, SHIELD

## RJ45_2x1_PORT_NOLED
designator J?, comment 2-port, RJ-45, No LED, 2x1
Manufacturer: Amphenol Commercial Products; Part Number: RJE1R288335403; Link: https://cz.mouser.com/ProductDetail/Amphenol-Commercial-Products/RJE1R288335403?qs=vLWxofP3U2zQkStGGPsUoQ%3D%3D; Distributor: Mouser; Package: RJ45_4_PORT_NOLED
footprint RJ45_2_PORT_NOLED_STACKED
pins: A1, A2, A3, A4, A5, A6, A7, A8, B1, B2, B3, B4, B5, B6, B7, B8, SHIELD1, SHIELD2, SHIELD3, SHIELD4

## RJ45_2x4_PORT_NOLED
designator J?, comment 4-port, RJ-45, No LED, 2x4
4-port, RJ-45, No LED, stacked, 2x4; Manufacturer: Molex; Part Number: 44520-0001; Link: https://cz.mouser.com/ProductDetail/Molex/44520-0001?qs=hlCZAUV0QHOVzRfR0EZH3w%3D%3D; Distributor: Mouser; Package: RJ45_2x4_PORT_NOLED
footprint RJ45_2x4_PORT_NOLED
part A pins: A1-1, A2-1, A3-1, A4-1, A5-1, A6-1, A7-1, A8-1, B1-1, B2-1, B3-1, B4-1, B5-1, B6-1, B7-1, B8-1, C1-1, C2-1, C3-1, C4-1, C5-1, C6-1, C7-1, C8-1, D1-1, D2-1, D3-1, D4-1, D5-1, D6-1, D7-1, D8-1, SHIELD1, SHIELD2, SHIELD3, SHIELD4, SHIELD5, SHIELD6
part B pins: A1-2, A2-2, A3-2, A4-2, A5-2, A6-2, A7-2, A8-2, B1-2, B2-2, B3-2, B4-2, B5-2, B6-2, B7-2, B8-2, C1-2, C2-2, C3-2, C4-2, C5-2, C6-2, C7-2, C8-2, D1-2, D2-2, D3-2, D4-2, D5-2, D6-2, D7-2, D8-2, SHIELD7, SHIELD8, SHIELD9, SHIELD10, SHIELD11, SHIELD12

## RJ45_4_PORT_NOLED
designator J?, comment 4-port, RJ-45, No LED
Manufacturer: Phoenix Contact; Part Number: 1149851; Link: https://cz.mouser.com/ProductDetail/Phoenix-Contact/1149851?qs=7MVldsJ5UayGu5Wx4lDmmQ%3D%3D; Distributor: Mouser; Package: RJ45_4_PORT_NOLED
footprint RJ45_4_PORT_NOLED (RJ45, 4-Port, No LED)
pins: A1, A2, A3, A4, A5, A6, A7, A8, B1, B2, B3, B4, B5, B6, B7, B8, C1, C2, C3, C4, C5, C6, C7, C8, D1, D2, D3, D4, D5, D6, D7, D8, SHIELD1, SHIELD2, SHIELD3, SHIELD4

## S3B-XH-A-1
designator J?  Package: JST 3-pin, 2.5 mm
JST Header 3 pin 1 row 2.50mm; Link: https://www.tme.eu/cz/details/s3b-xh-a-1/signalove-konektory-raster-2-50mm/jst/s3b-xh-a-1-lf-sn/?brutto=1&currency=CZK&gad_source=1&gclid=Cj0KCQjw97SzBhDaARIsAFHXUWANRH5rmTiJJHextaBUT498q6KHGHqD0noFoC1EPLMXPQ_eCJ_p3tUaAjeoEALw_wcB; Distributor: TME; Manufacturer: JST; Part Number: S3B-XH-A-1
footprint S3BXHA1LFSN
pins: 1, 2, 3

## Screw_terminal_282841-2
designator J?, comment 2-pin, 5.08 mm
Manufacturer: TE Connectivity; Part Number: 282841-2; Link: http://cz.mouser.com/ProductDetail/TE-Connectivity/282841-2/?qs=sGAEpiMZZMvPvGwLNS6713Uge2ImzyUSANpZpjutp6g%3d; Distributor: Mouser; Package: 2-pin, 5.08 mm
footprint Screw_terminal_282841-2
pins: 1, 2

## SiS413DN
designator Q?  Package: POWERPAK-1212
P-channel mosfet, -30V, -18A, 9.4 mohm; Manufacturer: Infineon Technologies; Link: https://eu.mouser.com/ProductDetail/Vishay-Semiconductors/SIS413DN-T1-GE3?qs=vgn07B5hXav8x6TX%252BtAIoQ%3D%3D; Distributor: Mouser; Part Number: SiS413DN
footprint POWERPAK_1212-8
pins: 1 G, 2 S, 3 D

## SM91502ALA-E
designator TR?
Signal Transformer 1:1; 2-primary; 2-secondary; with CMC; Manufacturer: Bourns; Link: https://cz.mouser.com/ProductDetail/Bourns/SM91502ALA-E?qs=Wj%2FVkw3K%252BMDeDcOMgFFlnw%3D%3D; Distributor: Mouser; Part Number: SM91502ALA-E; Package: SM91502ALA
footprint SM91502ALA (Signal Transformer)
pins: 1, 2, 3, 4, 5, 6

## SN65LVDS1
designator U?  Package: SOT23-5
Single LVDS driver, 630-Mbps; Manufacturer: Texas Instruments; Part Number: SN65LVDS1DBVR; Link: https://cz.mouser.com/ProductDetail/Texas-Instruments/SN65LVDS1DBVR?qs=X1HXWTtiZ0SZLUdr5FQ%2F7g%3D%3D; Distributor: Mouser
footprint SOT-23-5 (SOT23, 5-Leads, Body 2.9x1.6mm, Pitch 0.95mm, Lead Span 2.7mm, IPC Low Density)
pins: 1 VCC (power), 2 GND (power), 3 OUT- (out), 4 OUT+ (out), 5 IN (in)

## SN74AXC4T774
designator U?  Package: TSSOP-16
4-bit dual-supply bus transceiver with 3-state outputs and independent direction control inputs; Manufacturer: Texas Instruments; Part Number: SN74AXC4T774QPWRQ1; Link: https://cz.mouser.com/ProductDetail/Texas-Instruments/SN74AXC4T774QPWRQ1?qs=OlC7AqGiEDlScm8aOxIi3Q%3D%3D; Distributor: Mouser; ComponentLink1Description: Datasheet; ComponentLink1URL: https://riceproject.fel.zcu.cz/Altium/PDF/Semiconductor/Logic/LevelShifter/sn74axc4t774.pdf
footprint TSSOP-16
pins: 1 DIR1, 2 DIR2, 3 A1 (io), 4 A2 (io), 5 A3 (io), 6 A4 (io), 7 DIR3, 8 DIR4, 9 ~{OE}, 10 GND (power), 11 B4 (io), 12 B3 (io), 13 B2 (io), 14 B1 (io), 15 VCCB (power), 16 VCCA (power)

## SN74LVC2G14
designator U?, comment Dual Inverter  Package: SOT-23-6
Dual Schmitt-Trigger Inverter; Manufacturer: Texas Instruments; Part Number: SN74LVC2G14DBVRG4; Link: https://cz.mouser.com/ProductDetail/Texas-Instruments/SN74LVC2G14DBVRG4?qs=pajgIaoyDUjLahZkznp%2F9Q%3D%3D; Distributor: Mouser
footprint SOT-23-6 (SOT95P280X145-6N)
pins: 1 1A (in), 2 GND (power), 3 2A (in), 4 2Y (out), 5 VCC (power), 6 1Y (out)

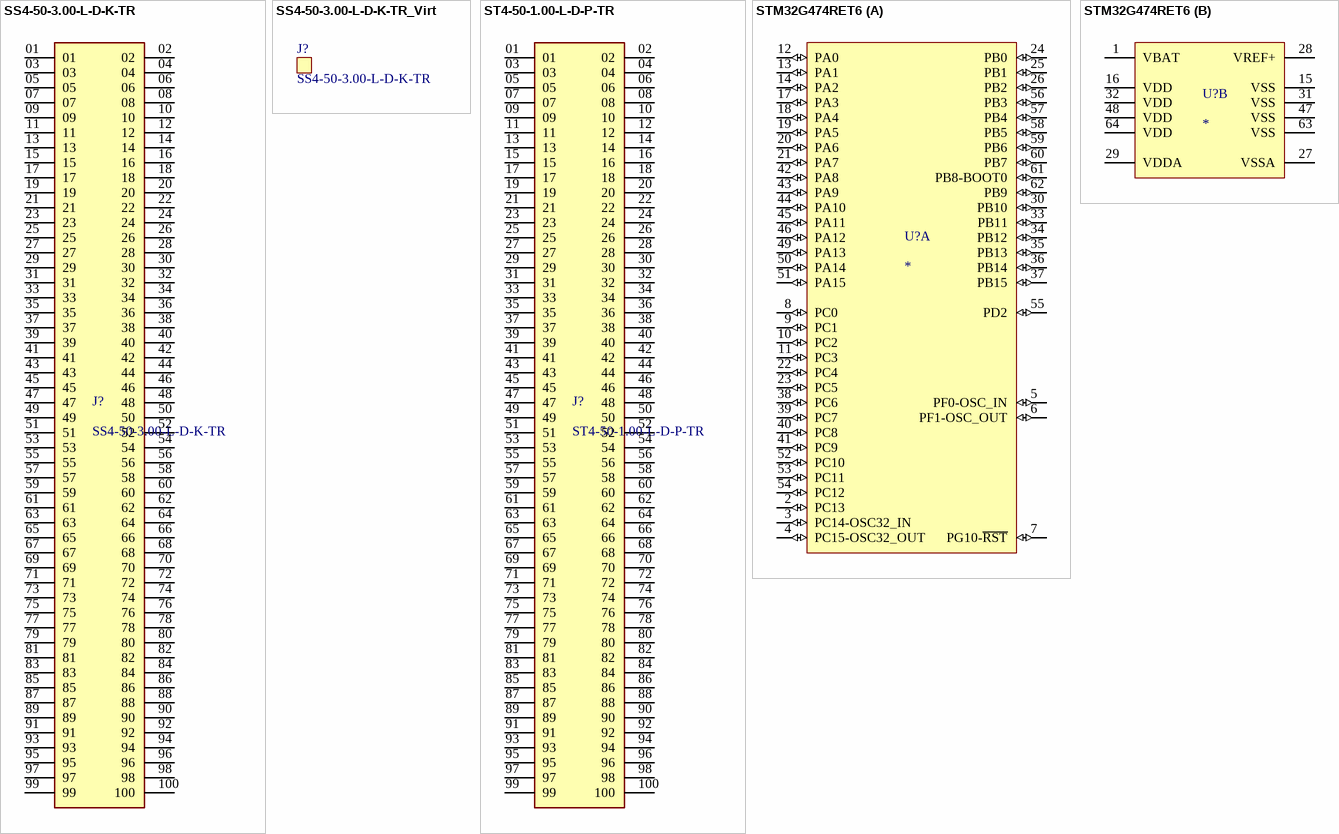
[diagram p3: symbols SS4-50-3.00-L-D-K-TR to STM32G474RET6]

## SS4-50-3.00-L-D-K-TR
designator J?
100 Position 0.40 mm Micro Blade & Beam Ultra Fine Pitch Socket 28Gbps; Manufacturer: Samtec; Link: https://cz.mouser.com/ProductDetail/Samtec/SS4-50-3.00-L-D-K-TR?qs=fnpEE5GccuM67wb3JTjm4Q%3D%3D; Distributor: Mouser; Part Number: SS4-50-3.00-L-D-K-TR; Package: SS4-50-3.00-L-D-K-TR
footprint SAMTEC_SS4-50-3.00-L-D-K-TR
pins: 01, 02, 03, 04, 05, 06, 07, 08, 09, 10, 11, 12, 13, 14, 15, 16, 17, 18, 19, 20, 21, 22, 23, 24, 25, 26, 27, 28, 29, 30, 31, 32, 33, 34, 35, 36, 37, 38, 39, 40, 41, 42, 43, 44, 45, 46, 47, 48, 49, 50, 51, 52, 53, 54, 55, 56, 57, 58, 59, 60, 61, 62, 63, 64, 65, 66, 67, 68, 69, 70, 71, 72, 73, 74, 75, 76, 77, 78, 79, 80, 81, 82, 83, 84, 85, 86, 87, 88, 89, 90, 91, 92, 93, 94, 95, 96, 97, 98, 99, 100

## SS4-50-3.00-L-D-K-TR_Virt
designator J?, comment SS4-50-3.00-L-D-K-TR
100 Position 0.40 mm Micro Blade & Beam Ultra Fine Pitch Socket 28Gbps Virtual Part; Manufacturer: Samtec; Link: https://cz.mouser.com/ProductDetail/Samtec/SS4-50-3.00-L-D-K-TR?qs=fnpEE5GccuM67wb3JTjm4Q%3D%3D; Distributor: Mouser; Part Number: SS4-50-3.00-L-D-K-TR; Package: SS4-50-3.00-L-D-K-TR
footprint SAMTEC_SS4-50-3.00-L-D-K-TR-Virtual (Virtual component)

## ST4-50-1.00-L-D-P-TR
designator J?
100 Position 0.40 mm Micro Blade & Beam Ultra Fine Pitch Header 28Gbps; Manufacturer: Samtec; Link: https://cz.mouser.com/ProductDetail/Samtec/ST4-50-1.00-L-D-P-TR?qs=FESYatJ8odJvr8RiWO9AmQ%3D%3D; Distributor: Mouser; Part Number: ST4-50-1.00-L-D-P-TR; Package: ST4-50-1.00-L-D-P-TR
footprint SAMTEC_ST4-50-1.00-L-D-P-TR
pins: 01, 02, 03, 04, 05, 06, 07, 08, 09, 10, 11, 12, 13, 14, 15, 16, 17, 18, 19, 20, 21, 22, 23, 24, 25, 26, 27, 28, 29, 30, 31, 32, 33, 34, 35, 36, 37, 38, 39, 40, 41, 42, 43, 44, 45, 46, 47, 48, 49, 50, 51, 52, 53, 54, 55, 56, 57, 58, 59, 60, 61, 62, 63, 64, 65, 66, 67, 68, 69, 70, 71, 72, 73, 74, 75, 76, 77, 78, 79, 80, 81, 82, 83, 84, 85, 86, 87, 88, 89, 90, 91, 92, 93, 94, 95, 96, 97, 98, 99, 100

## STM32G474RET6
designator U?
ARM Cortex-M4F STM32G4 Microcontroller IC 32-Bit Single-Core 170MHz 512KB (512K x 8) FLASH 64-LQFP (10x10); Manufacturer: STMicroelectronics; Part Number: STM32G474RET6; Link: https://cz.mouser.com/ProductDetail/STMicroelectronics/STM32G474RET6?qs=PzGy0jfpSMvUBs7PMTDqlg%3D%3D; Distributor: Mouser; Package: LQFP-64
footprint LQFP-64
part A pins: 2 PC13 (io), 3 PC14-OSC32_IN (io), 4 PC15-OSC32_OUT (io), 5 PF0-OSC_IN (io), 6 PF1-OSC_OUT (io), 7 PG10-~{RST} (io), 8 PC0 (io), 9 PC1 (io), 10 PC2 (io), 11 PC3 (io), 12 PA0 (io), 13 PA1 (io), 14 PA2 (io), 17 PA3 (io), 18 PA4 (io), 19 PA5 (io), 20 PA6 (io), 21 PA7 (io), 22 PC4 (io), 23 PC5 (io), 24 PB0 (io), 25 PB1 (io), 26 PB2 (io), 30 PB10 (io), 33 PB11 (io), 34 PB12 (io), 35 PB13 (io), 36 PB14 (io), 37 PB15 (io), 38 PC6 (io), 39 PC7 (io), 40 PC8 (io), 41 PC9 (io), 42 PA8 (io), 43 PA9 (io), 44 PA10 (io), 45 PA11 (io), 46 PA12 (io), 49 PA13 (io), 50 PA14 (io), 51 PA15 (io), 52 PC10 (io), 53 PC11 (io), 54 PC12 (io), 55 PD2 (io), 56 PB3 (io), 57 PB4 (io), 58 PB5 (io), 59 PB6 (io), 60 PB7 (io), 61 PB8-BOOT0 (io), 62 PB9 (io)
part B pins: 1 VBAT (power), 15 VSS (power), 16 VDD (power), 27 VSSA (power), 28 VREF+ (power), 29 VDDA (power), 31 VSS (power), 32 VDD (power), 47 VSS (power), 48 VDD (power), 63 VSS (power), 64 VDD (power)

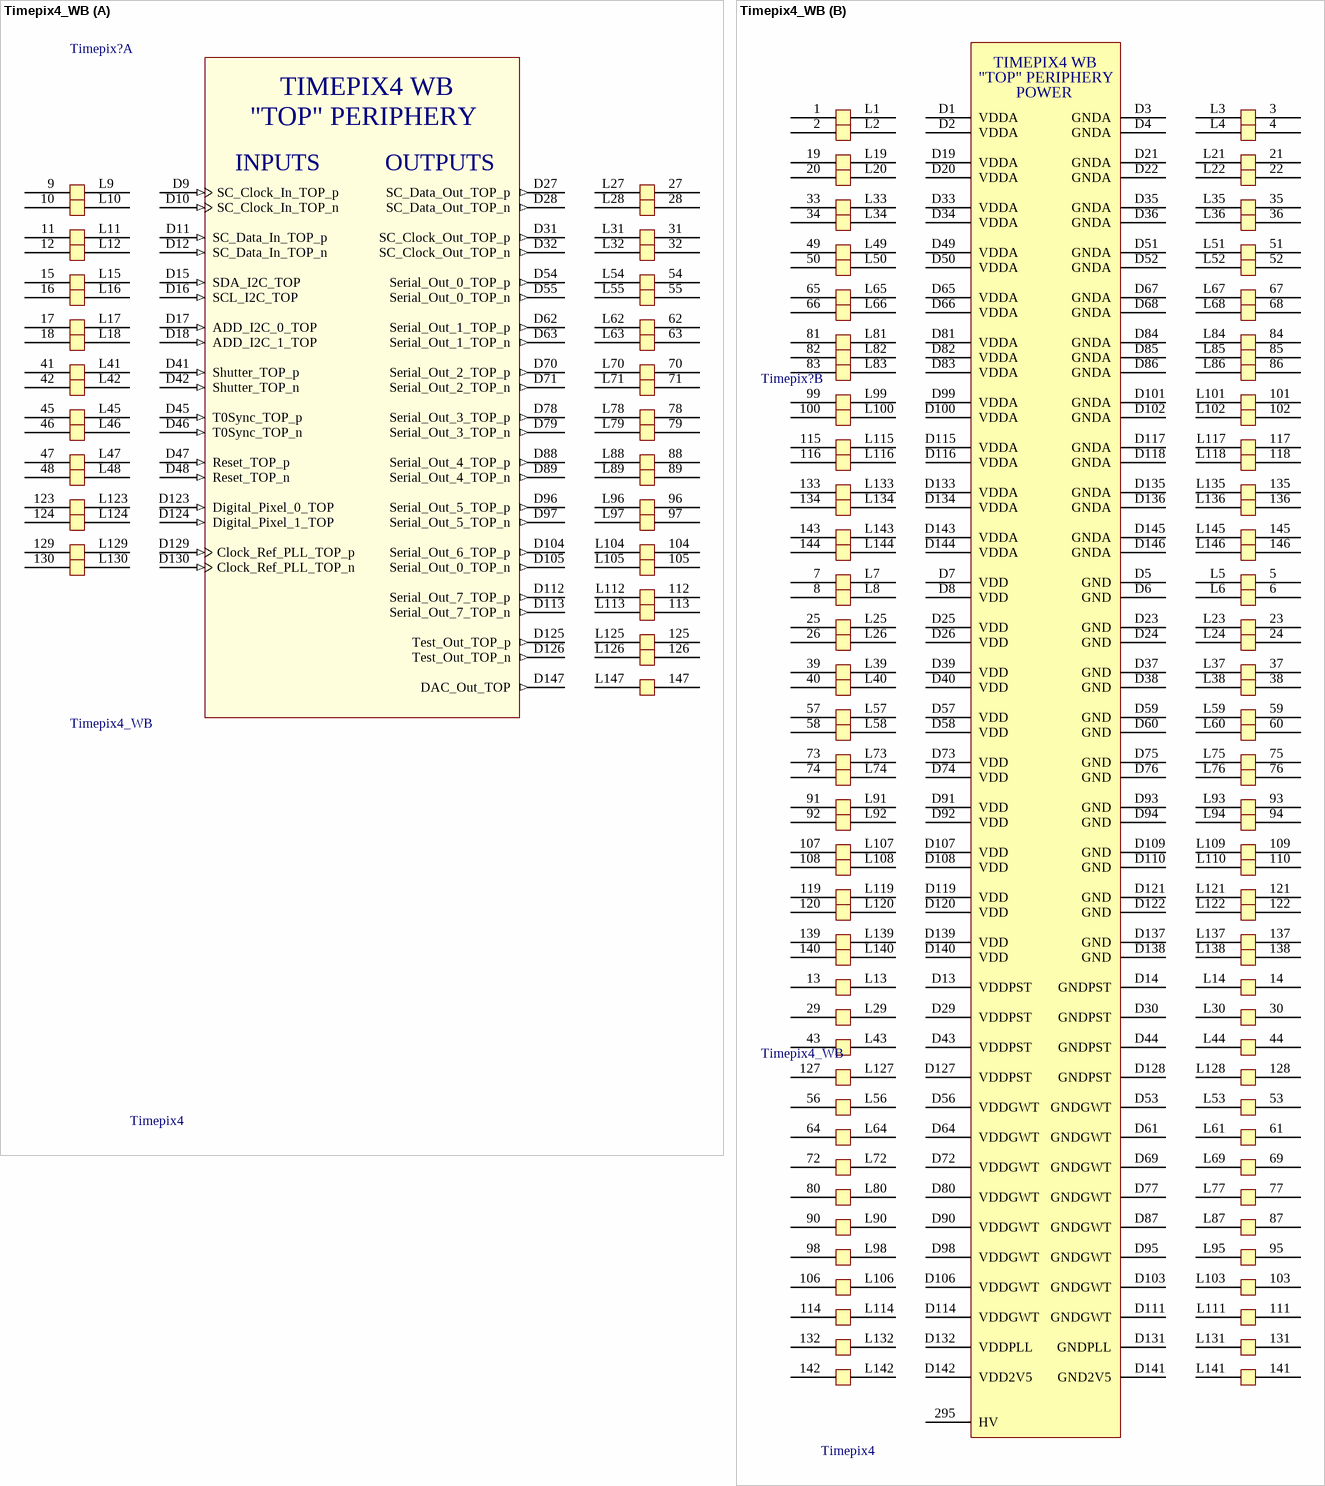
[diagram p4: symbol Timepix4_WB]

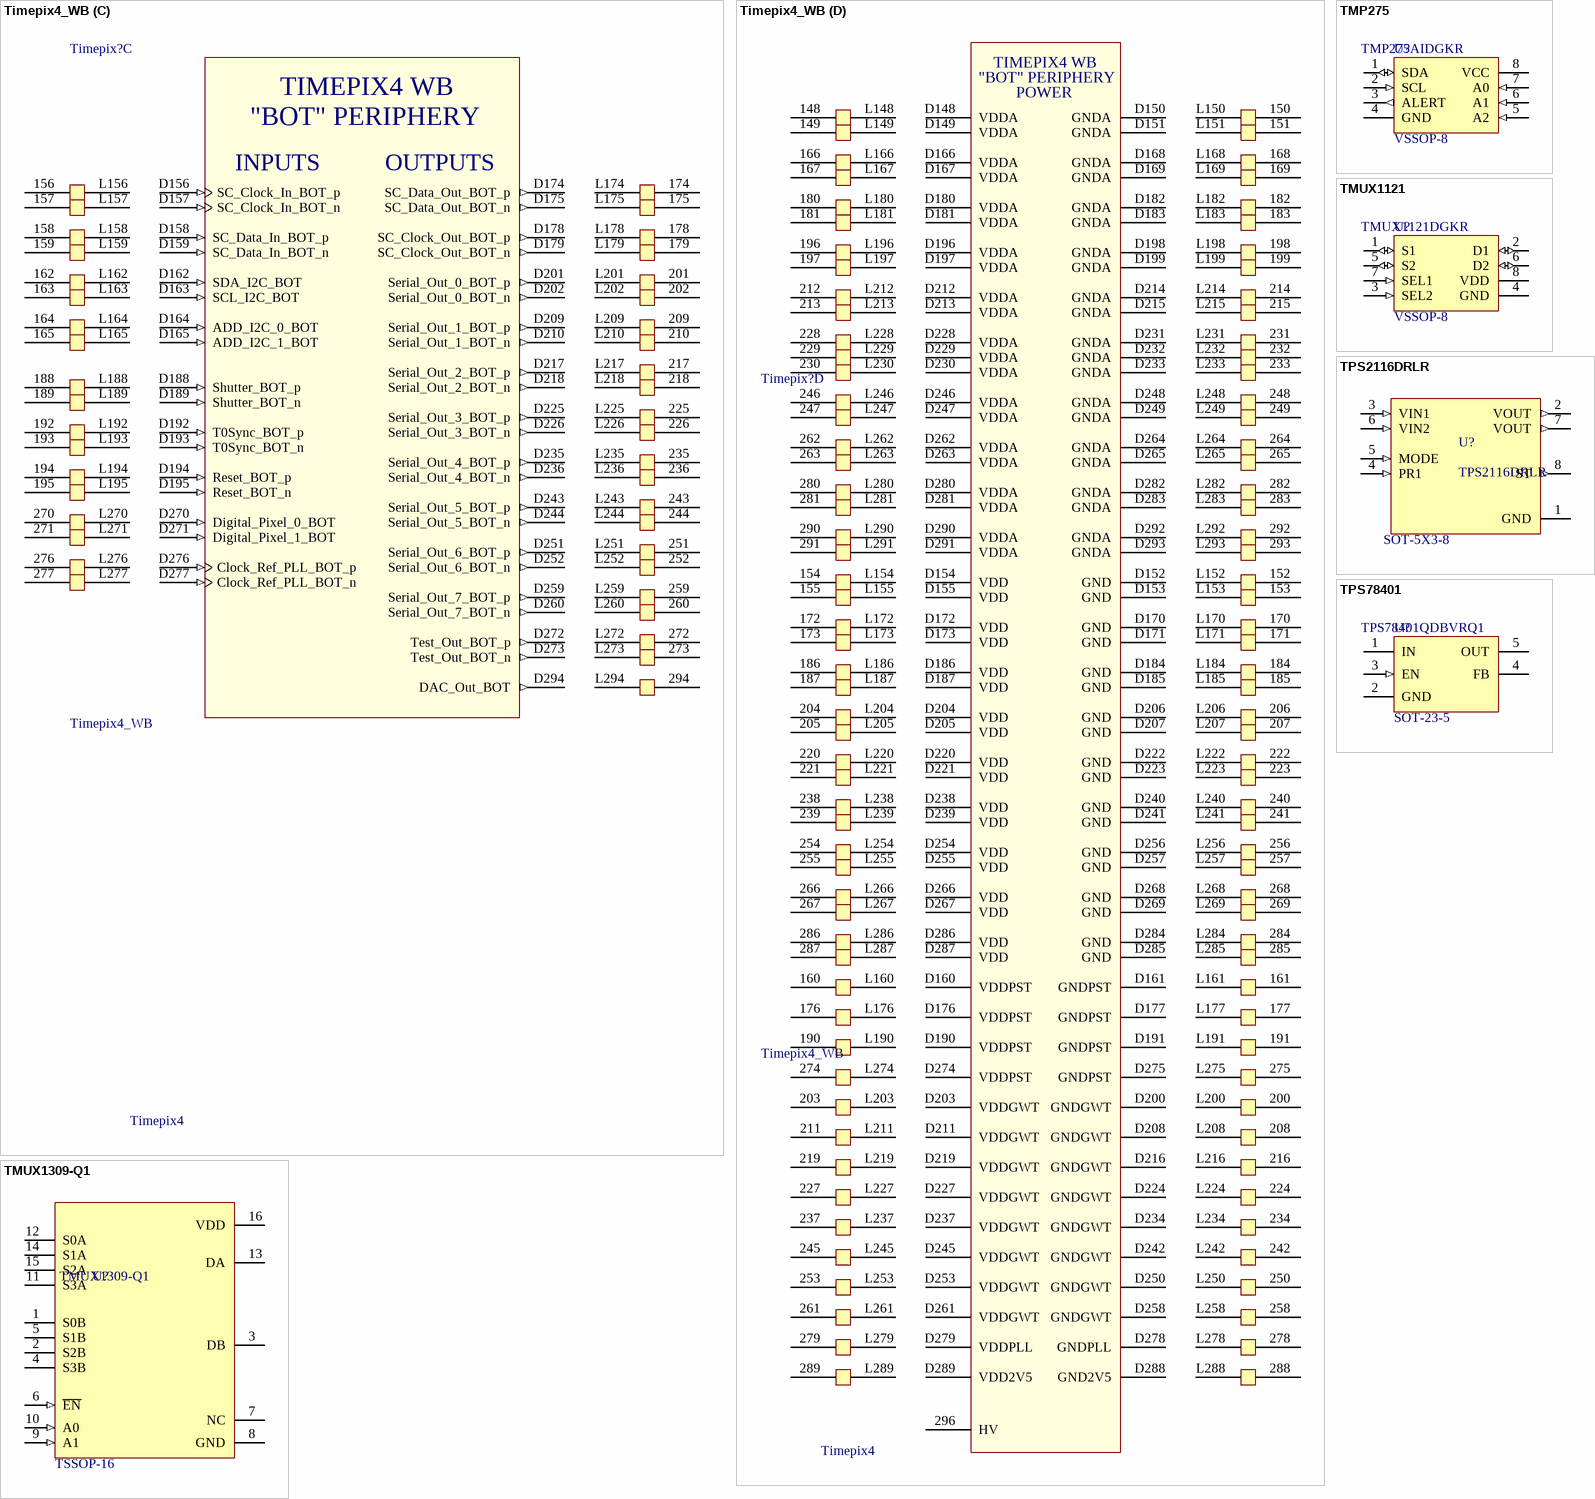
[diagram p5: symbols Timepix4_WB to TPS78401]